# Altium schematic symbol library WR-WTB_3.96mm.SchLib: 13 symbols
Pins are listed as number, name and electrical type; pins without a type are passive.

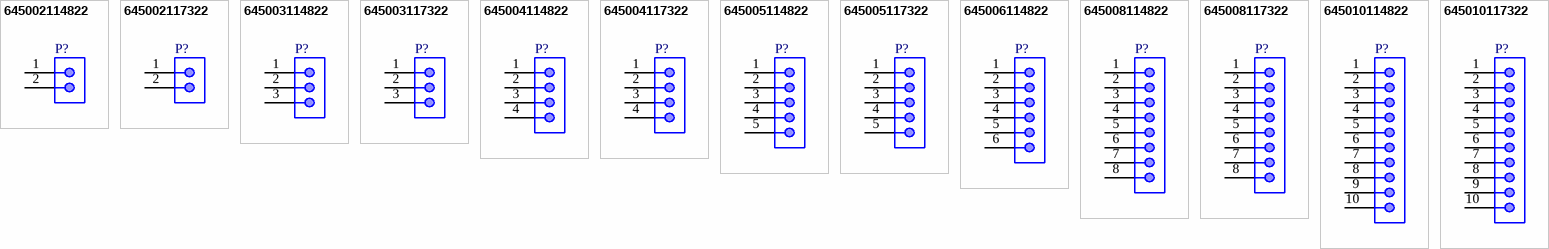
[diagram p0: symbols 645002114822 to 645010117322]

## 645002114822
designator P?
WR-WTB THT Male Vertical Locking Header, pitch 3.96mm, 2p; Part Number: 645002114822; Pin Number: 2; Contact Resistance: 20mOhm; Rated Current: 7A; Withstanding Voltage: 1500VAC; Working Voltage: 250VAC; ComponentLink1Description: Manufacturer; ComponentLink1URL: http://www.we-online.de; ComponentLink2Description: Datasheet; ComponentLink2URL: https://www.we-online.com/catalog/datasheet/645002114822.pdf; Pitch: 3.96mm; Published Date: January 2020; Publisher: Wurth Elektronik; Mounting Technology: THT; Packaging: Bag; Operating Temperature: -40 to +105degC; Gender: Male; Type: Vertical
footprint 645002114822
pins: 1, 2

## 645002117322
designator P?
WR-WTB THT Male Right Angled Locking Header, pitch 3.96mm, 2p; Part Number: 645002117322; Pin Number: 2; Contact Resistance: 20mOhm; Rated Current: 7A; Withstanding Voltage: 1500VAC; Working Voltage: 250VAC; ComponentLink1Description: Manufacturer; ComponentLink1URL: http://www.we-online.de; ComponentLink2Description: Datasheet; ComponentLink2URL: https://www.we-online.com/catalog/datasheet/645002117322.pdf; Pitch: 3.96mm; Published Date: January 2020; Publisher: Wurth Elektronik; Mounting Technology: THT; Packaging: Bag; Operating Temperature: -40 to +105degC; Gender: Male; Type: Right Angled
footprint 645002117322
pins: 1, 2

## 645003114822
designator P?
WR-WTB THT Male Vertical Locking Header, pitch 3.96mm, 3p; Part Number: 645003114822; Pin Number: 3; Contact Resistance: 20mOhm; Rated Current: 7A; Withstanding Voltage: 1500VAC; Working Voltage: 250VAC; ComponentLink1Description: Manufacturer; ComponentLink1URL: http://www.we-online.de; ComponentLink2Description: Datasheet; ComponentLink2URL: https://www.we-online.com/catalog/datasheet/645003114822.pdf; Pitch: 3.96mm; Published Date: January 2020; Publisher: Wurth Elektronik; Mounting Technology: THT; Packaging: Bag; Operating Temperature: -40 to +105degC; Gender: Male; Type: Vertical
footprint 645003114822
pins: 1, 2, 3

## 645003117322
designator P?
WR-WTB THT Male Right Angled Locking Header, pitch 3.96mm, 3p; Part Number: 645003117322; Pin Number: 3; Contact Resistance: 20mOhm; Rated Current: 7A; Withstanding Voltage: 1500VAC; Working Voltage: 250VAC; ComponentLink1Description: Manufacturer; ComponentLink1URL: http://www.we-online.de; ComponentLink2Description: Datasheet; ComponentLink2URL: https://www.we-online.com/catalog/datasheet/645003117322.pdf; Pitch: 3.96mm; Published Date: January 2020; Publisher: Wurth Elektronik; Mounting Technology: THT; Packaging: Bag; Operating Temperature: -40 to +105degC; Gender: Male; Type: Right Angled
footprint 645003117322
pins: 1, 2, 3

## 645004114822
designator P?
WR-WTB THT Male Vertical Locking Header, pitch 3.96mm, 4p; Part Number: 645004114822; Pin Number: 4; Contact Resistance: 20mOhm; Rated Current: 7A; Withstanding Voltage: 1500VAC; Working Voltage: 250VAC; ComponentLink1Description: Manufacturer; ComponentLink1URL: http://www.we-online.de; ComponentLink2Description: Datasheet; ComponentLink2URL: https://www.we-online.com/catalog/datasheet/645004114822.pdf; Pitch: 3.96mm; Published Date: January 2020; Publisher: Wurth Elektronik; Mounting Technology: THT; Packaging: Bag; Operating Temperature: -40 to +105degC; Gender: Male; Type: Vertical
footprint 645004114822
pins: 1, 2, 3, 4

## 645004117322
designator P?
WR-WTB THT Male Right Angled Locking Header, pitch 3.96mm, 4p; Part Number: 645004117322; Pin Number: 4; Contact Resistance: 20mOhm; Rated Current: 7A; Withstanding Voltage: 1500VAC; Working Voltage: 250VAC; ComponentLink1Description: Manufacturer; ComponentLink1URL: http://www.we-online.de; ComponentLink2Description: Datasheet; ComponentLink2URL: https://www.we-online.com/catalog/datasheet/645004117322.pdf; Pitch: 3.96mm; Published Date: January 2020; Publisher: Wurth Elektronik; Mounting Technology: THT; Packaging: Bag; Operating Temperature: -40 to +105degC; Gender: Male; Type: Right Angled
footprint 645004117322
pins: 1, 2, 3, 4

## 645005114822
designator P?
WR-WTB THT Male Vertical Locking Header, pitch 3.96mm, 5p; Part Number: 645005114822; Pin Number: 5; Contact Resistance: 20mOhm; Rated Current: 7A; Withstanding Voltage: 1500VAC; Working Voltage: 250VAC; ComponentLink1Description: Manufacturer; ComponentLink1URL: http://www.we-online.de; ComponentLink2Description: Datasheet; ComponentLink2URL: https://www.we-online.com/catalog/datasheet/645005114822.pdf; Pitch: 3.96mm; Published Date: January 2020; Publisher: Wurth Elektronik; Mounting Technology: THT; Packaging: Bag; Operating Temperature: -40 to +105degC; Gender: Male; Type: Vertical
footprint 645005114822
pins: 1, 2, 3, 4, 5

## 645005117322
designator P?
WR-WTB THT Male Right Angled Locking Header, pitch 3.96mm, 5p; Part Number: 645005117322; Pin Number: 5; Contact Resistance: 20mOhm; Rated Current: 7A; Withstanding Voltage: 1500VAC; Working Voltage: 250VAC; ComponentLink1Description: Manufacturer; ComponentLink1URL: http://www.we-online.de; ComponentLink2Description: Datasheet; ComponentLink2URL: https://www.we-online.com/catalog/datasheet/645005117322.pdf; Pitch: 3.96mm; Published Date: January 2020; Publisher: Wurth Elektronik; Mounting Technology: THT; Packaging: Bag; Operating Temperature: -40 to +105degC; Gender: Male; Type: Right Angled
footprint 645005117322
pins: 1, 2, 3, 4, 5

## 645006114822
designator P?
WR-WTB THT Male Vertical Locking Header, pitch 3.96mm, 6p; Part Number: 645006114822; Pin Number: 6; Contact Resistance: 20mOhm; Rated Current: 7A; Withstanding Voltage: 1500VAC; Working Voltage: 250VAC; ComponentLink1Description: Manufacturer; ComponentLink1URL: http://www.we-online.de; ComponentLink2Description: Datasheet; ComponentLink2URL: https://www.we-online.com/catalog/datasheet/645006114822.pdf; Pitch: 3.96mm; Published Date: January 2020; Publisher: Wurth Elektronik; Mounting Technology: THT; Packaging: Bag; Operating Temperature: -40 to +105degC; Gender: Male; Type: Vertical
footprint 645006114822
pins: 1, 2, 3, 4, 5, 6

## 645008114822
designator P?
WR-WTB THT Male Vertical Locking Header, pitch 3.96mm, 8p; Part Number: 645008114822; Pin Number: 8; Contact Resistance: 20mOhm; Rated Current: 7A; Withstanding Voltage: 1500VAC; Working Voltage: 250VAC; ComponentLink1Description: Manufacturer; ComponentLink1URL: http://www.we-online.de; ComponentLink2Description: Datasheet; ComponentLink2URL: https://www.we-online.com/catalog/datasheet/645008114822.pdf; Pitch: 3.96mm; Published Date: January 2020; Publisher: Wurth Elektronik; Mounting Technology: THT; Packaging: Bag; Operating Temperature: -40 to +105degC; Gender: Male; Type: Vertical
footprint 645008114822
pins: 1, 2, 3, 4, 5, 6, 7, 8

## 645008117322
designator P?
WR-WTB THT Male Right Angled Locking Header, pitch 3.96mm, 8p; Part Number: 645008117322; Pin Number: 8; Contact Resistance: 20mOhm; Rated Current: 7A; Withstanding Voltage: 1500VAC; Working Voltage: 250VAC; ComponentLink1Description: Manufacturer; ComponentLink1URL: http://www.we-online.de; ComponentLink2Description: Datasheet; ComponentLink2URL: https://www.we-online.com/catalog/datasheet/645008117322.pdf; Pitch: 3.96mm; Published Date: January 2020; Publisher: Wurth Elektronik; Mounting Technology: THT; Packaging: Bag; Operating Temperature: -40 to +105degC; Gender: Male; Type: Right Angled
footprint 645008117322
pins: 1, 2, 3, 4, 5, 6, 7, 8

## 645010114822
designator P?
WR-WTB THT Male Vertical Locking Header, pitch 3.96mm, 10p; Part Number: 645010114822; Pin Number: 10; Contact Resistance: 20mOhm; Rated Current: 7A; Withstanding Voltage: 1500VAC; Working Voltage: 250VAC; ComponentLink1Description: Manufacturer; ComponentLink1URL: http://www.we-online.de; ComponentLink2Description: Datasheet; ComponentLink2URL: https://www.we-online.com/catalog/datasheet/645010114822.pdf; Pitch: 3.96mm; Published Date: January 2020; Publisher: Wurth Elektronik; Mounting Technology: THT; Packaging: Bag; Operating Temperature: -40 to +105degC; Gender: Male; Type: Vertical
footprint 645010114822
pins: 1, 2, 3, 4, 5, 6, 7, 8, 9, 10

## 645010117322
designator P?
WR-WTB THT Male Right Angled Locking Header, pitch 3.96mm, 10p; Part Number: 645010117322; Pin Number: 10; Contact Resistance: 20mOhm; Rated Current: 7A; Withstanding Voltage: 1500VAC; Working Voltage: 250VAC; ComponentLink1Description: Manufacturer; ComponentLink1URL: http://www.we-online.de; ComponentLink2Description: Datasheet; ComponentLink2URL: https://www.we-online.com/catalog/datasheet/645010117322.pdf; Pitch: 3.96mm; Published Date: January 2020; Publisher: Wurth Elektronik; Mounting Technology: THT; Packaging: Bag; Operating Temperature: -40 to +105degC; Gender: Male; Type: Right Angled
footprint 645010117322
pins: 1, 2, 3, 4, 5, 6, 7, 8, 9, 10